# EAGLE library part LIS302DLTR (library OLED Watch Original Library)
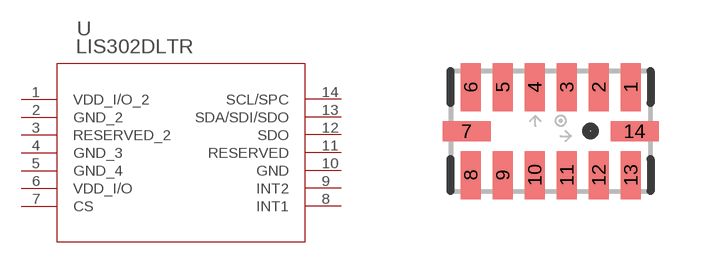
[diagram p0: symbol with the pads of LGA-14; footprint LGA-14]

Designator prefix U

## LIS302DLTR  [LGA-14]
1  VDD_I/O_2  pwr
2  GND_2  pwr
3  RESERVED_2  pas
4  GND_3  pwr
5  GND_4  pwr
6  VDD_I/O  pwr
7  CS  pas
8  INT1  pas
9  INT2  pas
10  GND  pwr
11  RESERVED  pas
12  SDO  out
13  SDA/SDI/SDO
14  SCL/SPC  pas

## Footprint LGA-14 (pad centres in mm)
smd 0.5 x 1.2: 1 2,1.1; 2 1.2,1.1; 3 0.4,1.1; 4 -0.4,1.1; 5 -1.2,1.1; 6 -2,1.1; 8 -2,-1.1; 9 -1.2,-1.1; 10 -0.4,-1.1; 11 0.4,-1.1; 12 1.2,-1.1; 13 2,-1.1
smd 1.2 x 0.5: 7 -2.1,0; 14 2.1,0